# Altium schematic symbol library PhaseDetectors.SchLib: 2 symbols
Pins are listed as number, name and electrical type; pins without a type are passive.

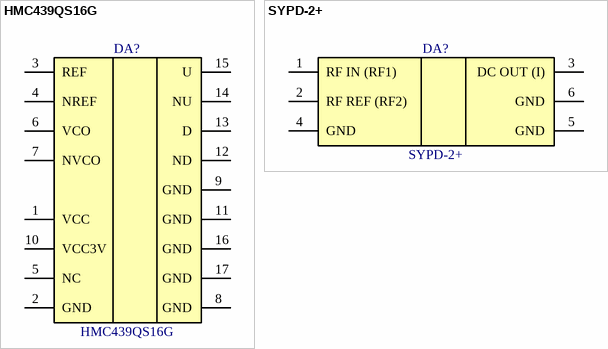
[diagram p0: symbols HMC439QS16G to SYPD-2+]

## HMC439QS16G
designator DA?
HBT DIGITAL PHASE-FREQUENCY DETECTOR, 10 - 1300 MHz; Manufacturer: Analog Devices; PartNumber: HMC439QS16G; ComponentLink1Description: Product Page; ComponentLink1URL: https://www.analog.com/en/products/hmc439.html; ComponentLink2Description: DataSheet; ComponentLink2URL: https://www.analog.com/media/en/technical-documentation/data-sheets/hmc439.pdf
footprint SOP17P64_490X600X175L84X25T230X175N (Small Outline Pkg (SOP with Tab), 0.64 mm pitch; 16 pin, 4.90 mm L X 3.90 mm W X 1.75 mm H body)
pins: 1 VCC, 2 GND, 3 REF, 4 NREF, 5 NC, 6 VCO, 7 NVCO, 8 GND, 9 GND, 10 VCC3V, 11 GND, 12 ND, 13 D, 14 NU, 15 U, 16 GND, 17 GND

## SYPD-2+
designator DA?
Phase Detector 50Ω High Output 10 to 200 MHz; Manufacturer: Mini-Circuits; PartNumber: SYPD-2+; ComponentLink1Description: Product Page; ComponentLink1URL: https://www.minicircuits.com/WebStore/dashboard.html?model=SYPD-2%2B; ComponentLink2Description: DataSheet; ComponentLink2URL: https://www.minicircuits.com/WebStore/dashboardPdf?model=SYPD-2%2B
footprint TTT167 (Mini-Circuits case TTT167)
pins: 1 RF IN (RF1), 2 RF REF (RF2), 3 DC OUT (I), 4 GND, 5 GND, 6 GND